# EAGLE library part SDRAM-8MX32-BGA (library xess)
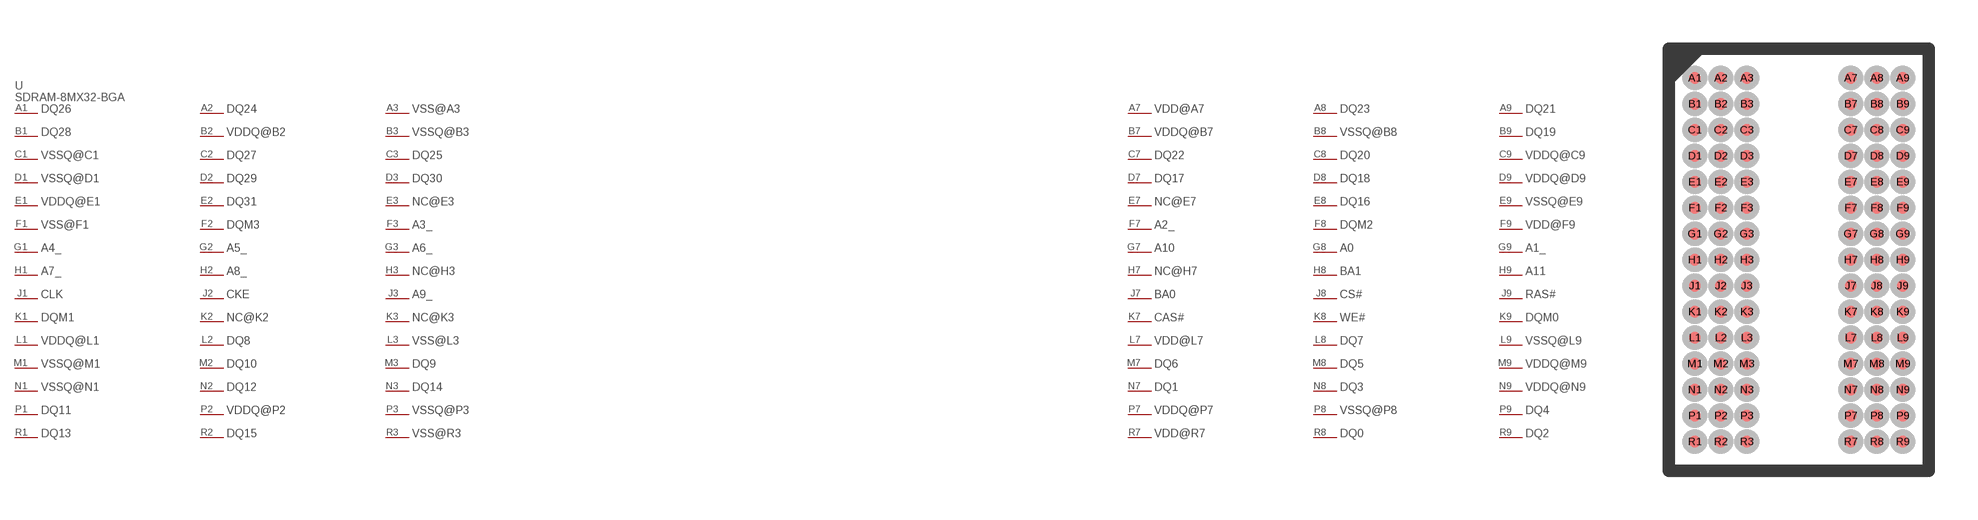
[diagram p51: symbol with the pads of SDRAM-8MX32-BGA; footprint SDRAM-8MX32-BGA]

Designator prefix U; gates PART_VALUE=PART_VALUE-SDRAM-8MX32-BGA DQ26=P-SDRAM-8MX32-BGA DQ24=P-SDRAM-8MX32-BGA VSS@A3=P-SDRAM-8MX32-BGA VDD@A7=P-SDRAM-8MX32-BGA DQ23=P-SDRAM-8MX32-BGA DQ21=P-SDRAM-8MX32-BGA DQ28=P-SDRAM-8MX32-BGA VDDQ@B2=P-SDRAM-8MX32-BGA VSSQ@B3=P-SDRAM-8MX32-BGA VDDQ@B7=P-SDRAM-8MX32-BGA VSSQ@B8=P-SDRAM-8MX32-BGA DQ19=P-SDRAM-8MX32-BGA VSSQ@C1=P-SDRAM-8MX32-BGA DQ27=P-SDRAM-8MX32-BGA DQ25=P-SDRAM-8MX32-BGA DQ22=P-SDRAM-8MX32-BGA DQ20=P-SDRAM-8MX32-BGA VDDQ@C9=P-SDRAM-8MX32-BGA VSSQ@D1=P-SDRAM-8MX32-BGA DQ29=P-SDRAM-8MX32-BGA DQ30=P-SDRAM-8MX32-BGA DQ17=P-SDRAM-8MX32-BGA DQ18=P-SDRAM-8MX32-BGA VDDQ@D9=P-SDRAM-8MX32-BGA VDDQ@E1=P-SDRAM-8MX32-BGA DQ31=P-SDRAM-8MX32-BGA NC@E3=P-SDRAM-8MX32-BGA NC@E7=P-SDRAM-8MX32-BGA DQ16=P-SDRAM-8MX32-BGA VSSQ@E9=P-SDRAM-8MX32-BGA VSS@F1=P-SDRAM-8MX32-BGA DQM3=P-SDRAM-8MX32-BGA A3_=P-SDRAM-8MX32-BGA A2_=P-SDRAM-8MX32-BGA DQM2=P-SDRAM-8MX32-BGA VDD@F9=P-SDRAM-8MX32-BGA A4_=P-SDRAM-8MX32-BGA A5_=P-SDRAM-8MX32-BGA A6_=P-SDRAM-8MX32-BGA A10=P-SDRAM-8MX32-BGA A0=P-SDRAM-8MX32-BGA A1_=P-SDRAM-8MX32-BGA A7_=P-SDRAM-8MX32-BGA A8_=P-SDRAM-8MX32-BGA NC@H3=P-SDRAM-8MX32-BGA NC@H7=P-SDRAM-8MX32-BGA BA1=P-SDRAM-8MX32-BGA A11=P-SDRAM-8MX32-BGA CLK=P-SDRAM-8MX32-BGA CKE=P-SDRAM-8MX32-BGA A9_=P-SDRAM-8MX32-BGA BA0=P-SDRAM-8MX32-BGA CS#=P-SDRAM-8MX32-BGA RAS#=P-SDRAM-8MX32-BGA DQM1=P-SDRAM-8MX32-BGA NC@K2=P-SDRAM-8MX32-BGA NC@K3=P-SDRAM-8MX32-BGA CAS#=P-SDRAM-8MX32-BGA WE#=P-SDRAM-8MX32-BGA DQM0=P-SDRAM-8MX32-BGA VDDQ@L1=P-SDRAM-8MX32-BGA DQ8=P-SDRAM-8MX32-BGA VSS@L3=P-SDRAM-8MX32-BGA VDD@L7=P-SDRAM-8MX32-BGA DQ7=P-SDRAM-8MX32-BGA VSSQ@L9=P-SDRAM-8MX32-BGA VSSQ@M1=P-SDRAM-8MX32-BGA DQ10=P-SDRAM-8MX32-BGA DQ9=P-SDRAM-8MX32-BGA DQ6=P-SDRAM-8MX32-BGA DQ5=P-SDRAM-8MX32-BGA VDDQ@M9=P-SDRAM-8MX32-BGA VSSQ@N1=P-SDRAM-8MX32-BGA DQ12=P-SDRAM-8MX32-BGA DQ14=P-SDRAM-8MX32-BGA DQ1=P-SDRAM-8MX32-BGA DQ3=P-SDRAM-8MX32-BGA VDDQ@N9=P-SDRAM-8MX32-BGA DQ11=P-SDRAM-8MX32-BGA VDDQ@P2=P-SDRAM-8MX32-BGA VSSQ@P3=P-SDRAM-8MX32-BGA VDDQ@P7=P-SDRAM-8MX32-BGA VSSQ@P8=P-SDRAM-8MX32-BGA DQ4=P-SDRAM-8MX32-BGA DQ13=P-SDRAM-8MX32-BGA DQ15=P-SDRAM-8MX32-BGA VSS@R3=P-SDRAM-8MX32-BGA VDD@R7=P-SDRAM-8MX32-BGA DQ0=P-SDRAM-8MX32-BGA DQ2=P-SDRAM-8MX32-BGA

## SDRAM-8MX32-BGA  [SDRAM-8MX32-BGA]
A1  DQ26:P$1
A2  DQ24:P$1
A3  VSS@A3:P$1
A7  VDD@A7:P$1
A8  DQ23:P$1
A9  DQ21:P$1
B1  DQ28:P$1
B2  VDDQ@B2:P$1
B3  VSSQ@B3:P$1
B7  VDDQ@B7:P$1
B8  VSSQ@B8:P$1
B9  DQ19:P$1
C1  VSSQ@C1:P$1
C2  DQ27:P$1
C3  DQ25:P$1
C7  DQ22:P$1
C8  DQ20:P$1
C9  VDDQ@C9:P$1
D1  VSSQ@D1:P$1
D2  DQ29:P$1
D3  DQ30:P$1
D7  DQ17:P$1
D8  DQ18:P$1
D9  VDDQ@D9:P$1
E1  VDDQ@E1:P$1
E2  DQ31:P$1
E3  NC@E3:P$1
E7  NC@E7:P$1
E8  DQ16:P$1
E9  VSSQ@E9:P$1
F1  VSS@F1:P$1
F2  DQM3:P$1
F3  A3_:P$1
F7  A2_:P$1
F8  DQM2:P$1
F9  VDD@F9:P$1
G1  A4_:P$1
G2  A5_:P$1
G3  A6_:P$1
G7  A10:P$1
G8  A0:P$1
G9  A1_:P$1
H1  A7_:P$1
H2  A8_:P$1
H3  NC@H3:P$1
H7  NC@H7:P$1
H8  BA1:P$1
H9  A11:P$1
J1  CLK:P$1
J2  CKE:P$1
J3  A9_:P$1
J7  BA0:P$1
J8  CS#:P$1
J9  RAS#:P$1
K1  DQM1:P$1
K2  NC@K2:P$1
K3  NC@K3:P$1
K7  CAS#:P$1
K8  WE#:P$1
K9  DQM0:P$1
L1  VDDQ@L1:P$1
L2  DQ8:P$1
L3  VSS@L3:P$1
L7  VDD@L7:P$1
L8  DQ7:P$1
L9  VSSQ@L9:P$1
M1  VSSQ@M1:P$1
M2  DQ10:P$1
M3  DQ9:P$1
M7  DQ6:P$1
M8  DQ5:P$1
M9  VDDQ@M9:P$1
N1  VSSQ@N1:P$1
N2  DQ12:P$1
N3  DQ14:P$1
N7  DQ1:P$1
N8  DQ3:P$1
N9  VDDQ@N9:P$1
P1  DQ11:P$1
P2  VDDQ@P2:P$1
P3  VSSQ@P3:P$1
P7  VDDQ@P7:P$1
P8  VSSQ@P8:P$1
P9  DQ4:P$1
R1  DQ13:P$1
R2  DQ15:P$1
R3  VSS@R3:P$1
R7  VDD@R7:P$1
R8  DQ0:P$1
R9  DQ2:P$1

## Footprint SDRAM-8MX32-BGA (pad centres in mm)
smd 0.356 x 0.356: A1 0,0; A2 0.8,0; A3 1.6,0; A7 4.8,0; A8 5.6,0; A9 6.4,0; B1 0,-0.8; B2 0.8,-0.8; B3 1.6,-0.8; B7 4.8,-0.8; B8 5.6,-0.8; B9 6.4,-0.8; C1 0,-1.6; C2 0.8,-1.6; C3 1.6,-1.6; C7 4.8,-1.6; C8 5.6,-1.6; C9 6.4,-1.6; D1 0,-2.4; D2 0.8,-2.4; D3 1.6,-2.4; D7 4.8,-2.4; D8 5.6,-2.4; D9 6.4,-2.4; E1 0,-3.2; E2 0.8,-3.2; E3 1.6,-3.2; E7 4.8,-3.2; E8 5.6,-3.2; E9 6.4,-3.2; F1 0,-4; F2 0.8,-4; F3 1.6,-4; F7 4.8,-4; F8 5.6,-4; F9 6.4,-4; G1 0,-4.8; G2 0.8,-4.8; G3 1.6,-4.8; G7 4.8,-4.8; G8 5.6,-4.8; G9 6.4,-4.8; H1 0,-5.6; H2 0.8,-5.6; H3 1.6,-5.6; H7 4.8,-5.6; H8 5.6,-5.6; H9 6.4,-5.6; J1 0,-6.4; J2 0.8,-6.4; J3 1.6,-6.4; J7 4.8,-6.4; J8 5.6,-6.4; J9 6.4,-6.4; K1 0,-7.2; K2 0.8,-7.2; K3 1.6,-7.2; K7 4.8,-7.2; K8 5.6,-7.2; K9 6.4,-7.2; L1 0,-8; L2 0.8,-8; L3 1.6,-8; L7 4.8,-8; L8 5.6,-8; L9 6.4,-8; M1 0,-8.8; M2 0.8,-8.8; M3 1.6,-8.8; M7 4.8,-8.8; M8 5.6,-8.8; M9 6.4,-8.8; N1 0,-9.6; N2 0.8,-9.6; N3 1.6,-9.6; N7 4.8,-9.6; N8 5.6,-9.6; N9 6.4,-9.6; P1 0,-10.4; P2 0.8,-10.4; P3 1.6,-10.4; P7 4.8,-10.4; P8 5.6,-10.4; P9 6.4,-10.4; R1 0,-11.2; R2 0.8,-11.2; R3 1.6,-11.2; R7 4.8,-11.2; R8 5.6,-11.2; R9 6.4,-11.2